# Altium integrated library Xilinx XC5200.IntLib: 211 symbols (part 16 of 19)
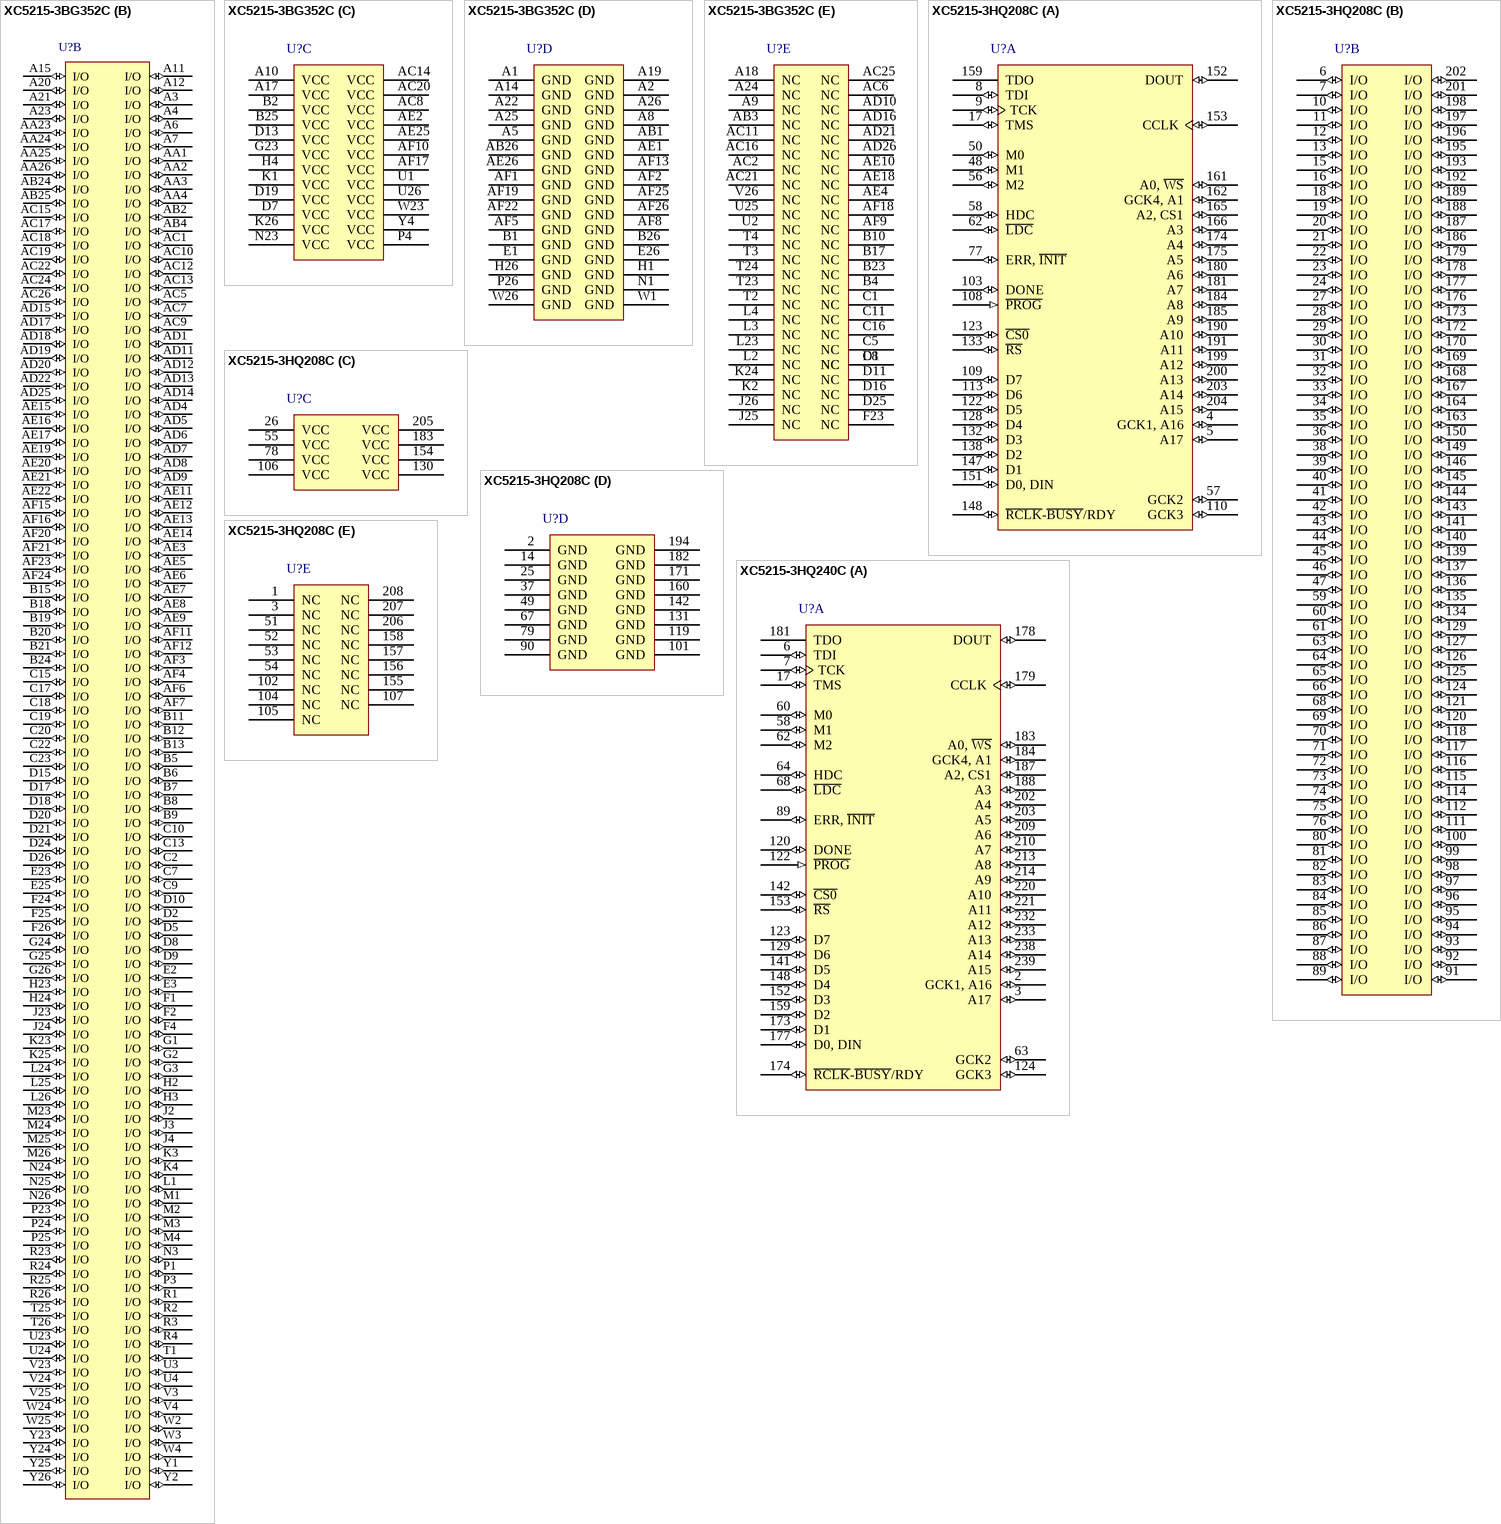
[diagram p78: symbols XC5215-3BG352C to XC5215-3HQ240C]

## XC5215-3BG352C
designator U?
XC5200 Series FPGA, 244 User I/Os, 352-Ball BGA, Commercial Grade; Published: 17-Nov-2009; DatasheetVersion: ver5.2, Nov-1998; PackageVersion: ver1.1, Apr-2001; PackageReference: BG352; Publisher: Altium Limited; PackageDescription: 352-Ball Metal Ball Grid Array (BG352); Code_JEDEC: MO-192-BAR-2; ComponentLink1Description: XC5200 Datasheet; ComponentLink1URL: http://www.xilinx.com/support/documentation/data_sheets/5200.pdf; ComponentLink2Description: Pinout Specification; ComponentLink2URL: http://www.xilinx.com/support/documentation/data_sheets/5200.pdf; ComponentLink3Description: BG352 Package Drawing; ComponentLink3URL: http://www.xilinx.com/support/documentation/package_specs/bg352.pdf; ComponentLink4Description: XC5200 Documents; ComponentLink4URL: http://www.xilinx.com/support/documentation/xc5200.htm; ComponentLink5Description: Xilinx.com Home; ComponentLink5URL: http://www.xilinx.com
footprint BG352 (BGA, 352-Leads, Body 35x35mm, Pitch 1.27mm)
signal-integrity model XC5215_BG352 (XC5200)
part A pins: A13 A6 (io) "I/O (A6)", A16 A10 (io) "I/O (A10)", AB23 M1 (io) "M1 (I/O)", AC3 GCK3 (io) "GCK3 (I/O)", AC4 ~{PROG} (in), AC23 M2 (io) "M2 (I/O)", AD2 D7 (io) "I/O (D7)", AD3 DONE (io), AD23 HDC (io) "I/O (HDC)", AD24 M0 (io) "M0 (I/O)", AE23 ~{LDC} (io) "I/O (LDC)", AE24 GCK2 (io) "GCK2 (I/O)", AF14 ERR, ~{INIT} (io) "I/O (ERR, INIT)", B3 A0, ~{WS} (io) "I/O (A0, WS)", B14 A7 (io) "I/O (A7)", B16 A11 (io) "I/O (A11)", B22 A12 (io) "I/O (A12)", C3 CCLK (io), C4 GCK4, A1 (io) "GCK4 (A1, I/O)", C6 A3 (io) "I/O (A3)", C12 A5 (io) "I/O (A5)", C14 A9 (io) "I/O (A9)", C21 A13 (io) "I/O (A13)", C24 A15 (io) "I/O (A15)", C25 A17 (io) "I/O (A17)", C26 TDI (io) "I/O (TDI)", D3 D0, DIN (io) "I/O (D0, DIN)", D4 TDO (hiz) "I/O (TDO)", D6 A2, CS1 (io) "I/O (A2, CS1)", D12 A4 (io) "I/O (A4)", D14 A8 (io) "I/O (A8)", D22 A14 (io) "I/O (A14)", D23 GCK1, A16 (io) "GCK1 (A16, I/O)", E4 DOUT (io) "I/O (DOUT)", E24 TCK (io) "I/O (TCK)", F3 D1 (io) "I/O (D1)", G4 ~{RCLK}-~{BUSY}/RDY (io) "I/O (RCLK-BUSY/RDY)", H25 TMS (io) "I/O (TMS)", J1 D2 (io) "I/O (D2)", N2 D3 (io) "I/O (D3)", N4 ~{RS} (io) "I/O (RS)", P2 D4 (io) "I/O (D4)", V1 ~{CS0} (io) "I/O (CS0)", V2 D5 (io) "I/O (D5)", Y3 D6 (io) "I/O (D6)"
part B pins: A3 I/O (io), A4 I/O (io), A6 I/O (io), A7 I/O (io), A11 I/O (io), A12 I/O (io), A15 I/O (io), A20 I/O (io), A21 I/O (io), A23 I/O (io), AA1 I/O (io), AA2 I/O (io), AA3 I/O (io), AA4 I/O (io), AA23 I/O (io), AA24 I/O (io), AA25 I/O (io), AA26 I/O (io), AB2 I/O (io), AB4 I/O (io), AB24 I/O (io), AB25 I/O (io), AC1 I/O (io), AC5 I/O (io), AC7 I/O (io), AC9 I/O (io), AC10 I/O (io), AC12 I/O (io), AC13 I/O (io), AC15 I/O (io), AC17 I/O (io), AC18 I/O (io), AC19 I/O (io), AC22 I/O (io), AC24 I/O (io), AC26 I/O (io), AD1 I/O (io), AD4 I/O (io), AD5 I/O (io), AD6 I/O (io), AD7 I/O (io), AD8 I/O (io), AD9 I/O (io), AD11 I/O (io), AD12 I/O (io), AD13 I/O (io), AD14 I/O (io), AD15 I/O (io), AD17 I/O (io), AD18 I/O (io), AD19 I/O (io), AD20 I/O (io), AD22 I/O (io), AD25 I/O (io), AE3 I/O (io), AE5 I/O (io), AE6 I/O (io), AE7 I/O (io), AE8 I/O (io), AE9 I/O (io), AE11 I/O (io), AE12 I/O (io), AE13 I/O (io), AE14 I/O (io), AE15 I/O (io), AE16 I/O (io), AE17 I/O (io), AE19 I/O (io), AE20 I/O (io), AE21 I/O (io), AE22 I/O (io), AF3 I/O (io), AF4 I/O (io), AF6 I/O (io), AF7 I/O (io), AF11 I/O (io), AF12 I/O (io), AF15 I/O (io), AF16 I/O (io), AF20 I/O (io), AF21 I/O (io), AF23 I/O (io), AF24 I/O (io), B5 I/O (io), B6 I/O (io), B7 I/O (io), B8 I/O (io), B9 I/O (io), B11 I/O (io), B12 I/O (io), B13 I/O (io), B15 I/O (io), B18 I/O (io), B19 I/O (io), B20 I/O (io), B21 I/O (io), B24 I/O (io), C2 I/O (io), C7 I/O (io), C9 I/O (io), C10 I/O (io), C13 I/O (io), C15 I/O (io), C17 I/O (io), C18 I/O (io), C19 I/O (io), C20 I/O (io), C22 I/O (io), C23 I/O (io), D2 I/O (io), D5 I/O (io), D8 I/O (io), D9 I/O (io), D10 I/O (io), D15 I/O (io), D17 I/O (io), D18 I/O (io), D20 I/O (io), D21 I/O (io), D24 I/O (io), D26 I/O (io), E2 I/O (io), E3 I/O (io), E23 I/O (io), E25 I/O (io), F1 I/O (io), F2 I/O (io), F4 I/O (io), F24 I/O (io), F25 I/O (io), F26 I/O (io), G1 I/O (io), G2 I/O (io), G3 I/O (io), G24 I/O (io), G25 I/O (io), G26 I/O (io), H2 I/O (io), H3 I/O (io), H23 I/O (io), H24 I/O (io), J2 I/O (io), J3 I/O (io), J4 I/O (io), J23 I/O (io), J24 I/O (io), K3 I/O (io), K4 I/O (io), K23 I/O (io), K25 I/O (io), L1 I/O (io), L24 I/O (io), L25 I/O (io), L26 I/O (io), M1 I/O (io), M2 I/O (io), M3 I/O (io), M4 I/O (io), M23 I/O (io), M24 I/O (io), M25 I/O (io), M26 I/O (io), N3 I/O (io), N24 I/O (io), N25 I/O (io), N26 I/O (io), P1 I/O (io), P3 I/O (io), P23 I/O (io), P24 I/O (io), P25 I/O (io), R1 I/O (io), R2 I/O (io), R3 I/O (io), R4 I/O (io), R23 I/O (io), R24 I/O (io), R25 I/O (io), R26 I/O (io), T1 I/O (io), T25 I/O (io), T26 I/O (io), U3 I/O (io), U4 I/O (io), U23 I/O (io), U24 I/O (io), V3 I/O (io), V4 I/O (io), V23 I/O (io), V24 I/O (io), V25 I/O (io), W2 I/O (io), W3 I/O (io), W4 I/O (io), W24 I/O (io), W25 I/O (io), Y1 I/O (io), Y2 I/O (io), Y23 I/O (io), Y24 I/O (io), Y25 I/O (io), Y26 I/O (io)
part C pins: A10 VCC (power) "Internally bonded to ground plane", A17 VCC (power) "Internally bonded to ground plane", AC8 VCC (power) "Internally bonded to ground plane", AC14 VCC (power) "Internally bonded to ground plane", AC20 VCC (power) "Internally bonded to ground plane", AE2 VCC (power) "Internally bonded to ground plane", AE25 VCC (power) "Internally bonded to ground plane", AF10 VCC (power) "Internally bonded to ground plane", AF17 VCC (power) "Internally bonded to ground plane", B2 VCC (power) "Internally bonded to ground plane", B25 VCC (power) "Internally bonded to ground plane", D7 VCC (power) "Internally bonded to ground plane", D13 VCC (power) "Internally bonded to ground plane", D19 VCC (power) "Internally bonded to ground plane", G23 VCC (power) "Internally bonded to ground plane", H4 VCC (power) "Internally bonded to ground plane", K1 VCC (power) "Internally bonded to ground plane", K26 VCC (power) "Internally bonded to ground plane", N23 VCC (power) "Internally bonded to ground plane", P4 VCC (power) "Internally bonded to ground plane", U1 VCC (power) "Internally bonded to ground plane", U26 VCC (power) "Internally bonded to ground plane", W23 VCC (power) "Internally bonded to ground plane", Y4 VCC (power) "Internally bonded to ground plane"
part D pins: A1 GND (power) "Internally bonded to ground plane", A2 GND (power) "Internally bonded to ground plane", A5 GND (power) "Internally bonded to ground plane", A8 GND (power) "Internally bonded to ground plane", A14 GND (power) "Internally bonded to ground plane", A19 GND (power) "Internally bonded to ground plane", A22 GND (power) "Internally bonded to ground plane", A25 GND (power) "Internally bonded to ground plane", A26 GND (power) "Internally bonded to ground plane", AB1 GND (power) "Internally bonded to ground plane", AB26 GND (power) "Internally bonded to ground plane", AE1 GND (power) "Internally bonded to ground plane", AE26 GND (power) "Internally bonded to ground plane", AF1 GND (power) "Internally bonded to ground plane", AF2 GND (power) "Internally bonded to ground plane", AF5 GND (power) "Internally bonded to ground plane", AF8 GND (power) "Internally bonded to ground plane", AF13 GND (power) "Internally bonded to ground plane", AF19 GND (power) "Internally bonded to ground plane", AF22 GND (power) "Internally bonded to ground plane", AF25 GND (power) "Internally bonded to ground plane", AF26 GND (power) "Internally bonded to ground plane", B1 GND (power) "Internally bonded to ground plane", B26 GND (power) "Internally bonded to ground plane", E1 GND (power) "Internally bonded to ground plane", E26 GND (power) "Internally bonded to ground plane", H1 GND (power) "Internally bonded to ground plane", H26 GND (power) "Internally bonded to ground plane", N1 GND (power) "Internally bonded to ground plane", P26 GND (power) "Internally bonded to ground plane", W1 GND (power) "Internally bonded to ground plane", W26 GND (power) "Internally bonded to ground plane"
part E pins: A9 NC, A18 NC, A24 NC, AB3 NC, AC2 NC, AC6 NC, AC11 NC, AC16 NC, AC21 NC, AC25 NC, AD10 NC, AD16 NC, AD21 NC, AD26 NC, AE4 NC, AE10 NC, AE18 NC, AF9 NC, AF18 NC, B4 NC, B10 NC, B17 NC, B23 NC, C1 NC, C5 NC, C8 NC, C11 NC, C16 NC, D1 NC, D11 NC, D16 NC, D25 NC, F23 NC, J25 NC, J26 NC, K2 NC, K24 NC, L2 NC, L3 NC, L4 NC, L23 NC, T2 NC, T3 NC, T4 NC, T23 NC, T24 NC, U2 NC, U25 NC, V26 NC

## XC5215-3HQ208C
designator U?
XC5200 Series FPGA, 164 User I/Os, 208-Pin HQFP, Commercial Grade; Published: 17-Nov-2009; DatasheetVersion: ver5.2, Nov-1998; PackageVersion: ver1.2, Jun-2004; PackageReference: HQ208; Publisher: Altium Limited; PackageDescription: 208-Pin Heat Sink Quad Flat Pack (HQ208); Code_JEDEC: MS-029-FA-1; ComponentLink1Description: XC5200 Datasheet; ComponentLink1URL: http://www.xilinx.com/support/documentation/data_sheets/5200.pdf; ComponentLink2Description: Pinout Specification; ComponentLink2URL: http://www.xilinx.com/support/documentation/data_sheets/5200.pdf; ComponentLink3Description: Discontinuation Notice; ComponentLink3URL: http://www.xilinx.com/support/documentation/customer_notices/xcn09001.pdf; ComponentLink4Description: HQ208 Package Drawing; ComponentLink4URL: http://www.xilinx.com/support/documentation/package_specs/hq208.pdf; ComponentLink5Description: XC5200 Documents; ComponentLink5URL: http://www.xilinx.com/support/documentation/xc5200.htm; ComponentLink6Description: Xilinx.com Home; ComponentLink6URL: http://www.xilinx.com
footprint HQ208_N (Shrink QFP, 208-Leads, Body 28x28mm, Pitch 0.5mm, IPC Medium Density)
footprint HQ208_L (Shrink QFP, 208-Leads, Body 28x28mm, Pitch 0.5mm, IPC High Density)
footprint HQ208_M (Shrink QFP, 208-Leads, Body 28x28mm, Pitch 0.5mm, IPC Low Density)
signal-integrity model XC5215_HQ208 (XC5200)
part A pins: 4 GCK1, A16 (io) "GCK1 (A16, I/O)", 5 A17 (io) "I/O (A17)", 8 TDI (io) "I/O (TDI)", 9 TCK (io) "I/O (TCK)", 17 TMS (io) "I/O (TMS)", 48 M1 (io) "M1 (I/O)", 50 M0 (io) "M0 (I/O)", 56 M2 (io) "M2 (I/O)", 57 GCK2 (io) "GCK2 (I/O)", 58 HDC (io) "I/O (HDC)", 62 ~{LDC} (io) "I/O (LDC)", 77 ERR, ~{INIT} (io) "I/O (ERR, INIT)", 103 DONE (io), 108 ~{PROG} (in), 109 D7 (io) "I/O (D7)", 110 GCK3 (io) "GCK3 (I/O)", 113 D6 (io) "I/O (D6)", 122 D5 (io) "I/O (D5)", 123 ~{CS0} (io) "I/O (CS0)", 128 D4 (io) "I/O (D4)", 132 D3 (io) "I/O (D3)", 133 ~{RS} (io) "I/O (RS)", 138 D2 (io) "I/O (D2)", 147 D1 (io) "I/O (D1)", 148 ~{RCLK}-~{BUSY}/RDY (io) "I/O (RCLK-BUSY/RDY)", 151 D0, DIN (io) "I/O (D0, DIN)", 152 DOUT (io) "I/O (DOUT)", 153 CCLK (io), 159 TDO (hiz) "I/O (TDO)", 161 A0, ~{WS} (io) "I/O (A0, WS)", 162 GCK4, A1 (io) "GCK4 (A1, I/O)", 165 A2, CS1 (io) "I/O (A2, CS1)", 166 A3 (io) "I/O (A3)", 174 A4 (io) "I/O (A4)", 175 A5 (io) "I/O (A5)", 180 A6 (io) "I/O (A6)", 181 A7 (io) "I/O (A7)", 184 A8 (io) "I/O (A8)", 185 A9 (io) "I/O (A9)", 190 A10 (io) "I/O (A10)", 191 A11 (io) "I/O (A11)", 199 A12 (io) "I/O (A12)", 200 A13 (io) "I/O (A13)", 203 A14 (io) "I/O (A14)", 204 A15 (io) "I/O (A15)"
part B pins: 6 I/O (io), 7 I/O (io), 10 I/O (io), 11 I/O (io), 12 I/O (io), 13 I/O (io), 15 I/O (io), 16 I/O (io), 18 I/O (io), 19 I/O (io), 20 I/O (io), 21 I/O (io), 22 I/O (io), 23 I/O (io), 24 I/O (io), 27 I/O (io), 28 I/O (io), 29 I/O (io), 30 I/O (io), 31 I/O (io), 32 I/O (io), 33 I/O (io), 34 I/O (io), 35 I/O (io), 36 I/O (io), 38 I/O (io), 39 I/O (io), 40 I/O (io), 41 I/O (io), 42 I/O (io), 43 I/O (io), 44 I/O (io), 45 I/O (io), 46 I/O (io), 47 I/O (io), 59 I/O (io), 60 I/O (io), 61 I/O (io), 63 I/O (io), 64 I/O (io), 65 I/O (io), 66 I/O (io), 68 I/O (io), 69 I/O (io), 70 I/O (io), 71 I/O (io), 72 I/O (io), 73 I/O (io), 74 I/O (io), 75 I/O (io), 76 I/O (io), 80 I/O (io), 81 I/O (io), 82 I/O (io), 83 I/O (io), 84 I/O (io), 85 I/O (io), 86 I/O (io), 87 I/O (io), 88 I/O (io), 89 I/O (io), 91 I/O (io), 92 I/O (io), 93 I/O (io), 94 I/O (io), 95 I/O (io), 96 I/O (io), 97 I/O (io), 98 I/O (io), 99 I/O (io), 100 I/O (io), 111 I/O (io), 112 I/O (io), 114 I/O (io), 115 I/O (io), 116 I/O (io), 117 I/O (io), 118 I/O (io), 120 I/O (io), 121 I/O (io), 124 I/O (io), 125 I/O (io), 126 I/O (io), 127 I/O (io), 129 I/O (io), 134 I/O (io), 135 I/O (io), 136 I/O (io), 137 I/O (io), 139 I/O (io), 140 I/O (io), 141 I/O (io), 143 I/O (io), 144 I/O (io), 145 I/O (io), 146 I/O (io), 149 I/O (io), 150 I/O (io), 163 I/O (io), 164 I/O (io), 167 I/O (io), 168 I/O (io), 169 I/O (io), 170 I/O (io), 172 I/O (io), 173 I/O (io), 176 I/O (io), 177 I/O (io), 178 I/O (io), 179 I/O (io), 186 I/O (io), 187 I/O (io), 188 I/O (io), 189 I/O (io), 192 I/O (io), 193 I/O (io), 195 I/O (io), 196 I/O (io), 197 I/O (io), 198 I/O (io), 201 I/O (io), 202 I/O (io)
part C pins: 26 VCC (power) "Internally bonded to ground plane", 55 VCC (power) "Internally bonded to ground plane", 78 VCC (power) "Internally bonded to ground plane", 106 VCC (power) "Internally bonded to ground plane", 130 VCC (power) "Internally bonded to ground plane", 154 VCC (power) "Internally bonded to ground plane", 183 VCC (power) "Internally bonded to ground plane", 205 VCC (power) "Internally bonded to ground plane"
part D pins: 2 GND (power) "Internally bonded to ground plane", 14 GND (power) "Internally bonded to ground plane", 25 GND (power) "Internally bonded to ground plane", 37 GND (power) "Internally bonded to ground plane", 49 GND (power) "Internally bonded to ground plane", 67 GND (power) "Internally bonded to ground plane", 79 GND (power) "Internally bonded to ground plane", 90 GND (power) "Internally bonded to ground plane", 101 GND (power) "Internally bonded to ground plane", 119 GND (power) "Internally bonded to ground plane", 131 GND (power) "Internally bonded to ground plane", 142 GND (power) "Internally bonded to ground plane", 160 GND (power) "Internally bonded to ground plane", 171 GND (power) "Internally bonded to ground plane", 182 GND (power) "Internally bonded to ground plane", 194 GND (power) "Internally bonded to ground plane"
part E pins: 1 NC, 3 NC, 51 NC, 52 NC, 53 NC, 54 NC, 102 NC, 104 NC, 105 NC, 107 NC, 155 NC, 156 NC, 157 NC, 158 NC, 206 NC, 207 NC, 208 NC

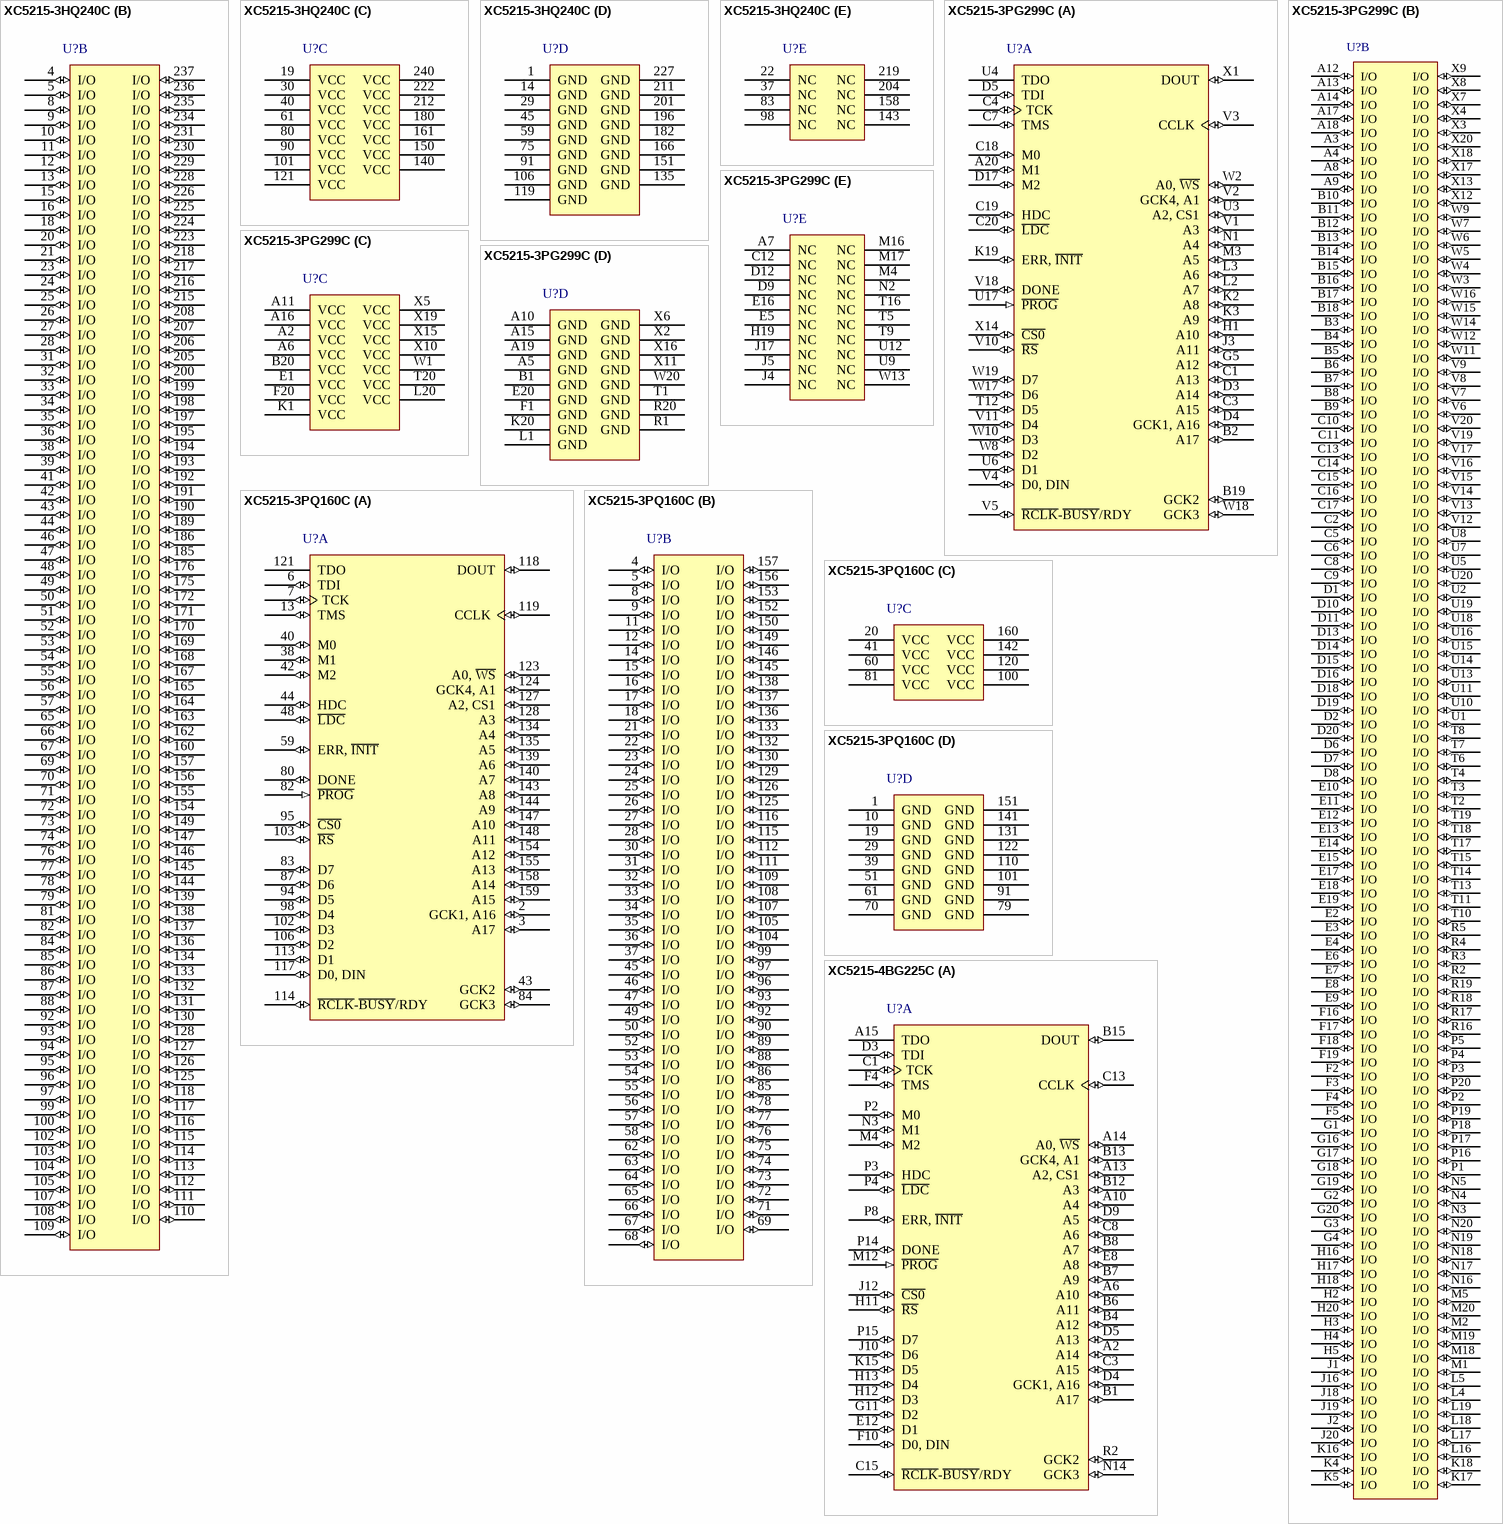
[diagram p51: symbols XC5215-3HQ240C to XC5215-4BG225C]

## XC5215-3HQ240C
designator U?
XC5200 Series FPGA, 197 User I/Os, 240-Pin HQFP, Commercial Grade; Published: 17-Nov-2009; DatasheetVersion: ver5.2, Nov-1998; PackageVersion: ver1.2, Jun-2004; PackageReference: HQ240; Publisher: Altium Limited; PackageDescription: 240-Pin Heat Sink Quad Flat Pack (HQ240); Code_JEDEC: MO-143-GA; ComponentLink1Description: XC5200 Datasheet; ComponentLink1URL: http://www.xilinx.com/support/documentation/data_sheets/5200.pdf; ComponentLink2Description: Pinout Specification; ComponentLink2URL: http://www.xilinx.com/support/documentation/data_sheets/5200.pdf; ComponentLink3Description: HQ240 Package Drawing; ComponentLink3URL: http://www.xilinx.com/support/documentation/package_specs/hq240.pdf; ComponentLink4Description: XC5200 Documents; ComponentLink4URL: http://www.xilinx.com/support/documentation/xc5200.htm; ComponentLink5Description: Xilinx.com Home; ComponentLink5URL: http://www.xilinx.com
footprint HQ240_N (Shrink QFP, 240-Leads, Body 32x32mm, Pitch 0.5mm, IPC Medium Density)
footprint HQ240_L (Shrink QFP, 240-Leads, Body 32x32mm, Pitch 0.5mm, IPC High Density)
footprint HQ240_M (Shrink QFP, 240-Leads, Body 32x32mm, Pitch 0.5mm, IPC Low Density)
signal-integrity model XC5215_HQ240 (XC5200)
part A pins: 2 GCK1, A16 (io) "GCK1 (A16, I/O)", 3 A17 (io) "I/O (A17)", 6 TDI (io) "I/O (TDI)", 7 TCK (io) "I/O (TCK)", 17 TMS (io) "I/O (TMS)", 58 M1 (io) "M1 (I/O)", 60 M0 (io) "M0 (I/O)", 62 M2 (io) "M2 (I/O)", 63 GCK2 (io) "GCK2 (I/O)", 64 HDC (io) "I/O (HDC)", 68 ~{LDC} (io) "I/O (LDC)", 89 ERR, ~{INIT} (io) "I/O (ERR, INIT)", 120 DONE (io), 122 ~{PROG} (in), 123 D7 (io) "I/O (D7)", 124 GCK3 (io) "GCK3 (I/O)", 129 D6 (io) "I/O (D6)", 141 D5 (io) "I/O (D5)", 142 ~{CS0} (io) "I/O (CS0)", 148 D4 (io) "I/O (D4)", 152 D3 (io) "I/O (D3)", 153 ~{RS} (io) "I/O (RS)", 159 D2 (io) "I/O (D2)", 173 D1 (io) "I/O (D1)", 174 ~{RCLK}-~{BUSY}/RDY (io) "I/O (RCLK-BUSY/RDY)", 177 D0, DIN (io) "I/O (D0, DIN)", 178 DOUT (io) "I/O (DOUT)", 179 CCLK (io), 181 TDO (hiz) "I/O (TDO)", 183 A0, ~{WS} (io) "I/O (A0, WS)", 184 GCK4, A1 (io) "GCK4 (A1, I/O)", 187 A2, CS1 (io) "I/O (A2, CS1)", 188 A3 (io) "I/O (A3)", 202 A4 (io) "I/O (A4)", 203 A5 (io) "I/O (A5)", 209 A6 (io) "I/O (A6)", 210 A7 (io) "I/O (A7)", 213 A8 (io) "I/O (A8)", 214 A9 (io) "I/O (A9)", 220 A10 (io) "I/O (A10)", 221 A11 (io) "I/O (A11)", 232 A12 (io) "I/O (A12)", 233 A13 (io) "I/O (A13)", 238 A14 (io) "I/O (A14)", 239 A15 (io) "I/O (A15)"
part B pins: 4 I/O (io), 5 I/O (io), 8 I/O (io), 9 I/O (io), 10 I/O (io), 11 I/O (io), 12 I/O (io), 13 I/O (io), 15 I/O (io), 16 I/O (io), 18 I/O (io), 20 I/O (io), 21 I/O (io), 23 I/O (io), 24 I/O (io), 25 I/O (io), 26 I/O (io), 27 I/O (io), 28 I/O (io), 31 I/O (io), 32 I/O (io), 33 I/O (io), 34 I/O (io), 35 I/O (io), 36 I/O (io), 38 I/O (io), 39 I/O (io), 41 I/O (io), 42 I/O (io), 43 I/O (io), 44 I/O (io), 46 I/O (io), 47 I/O (io), 48 I/O (io), 49 I/O (io), 50 I/O (io), 51 I/O (io), 52 I/O (io), 53 I/O (io), 54 I/O (io), 55 I/O (io), 56 I/O (io), 57 I/O (io), 65 I/O (io), 66 I/O (io), 67 I/O (io), 69 I/O (io), 70 I/O (io), 71 I/O (io), 72 I/O (io), 73 I/O (io), 74 I/O (io), 76 I/O (io), 77 I/O (io), 78 I/O (io), 79 I/O (io), 81 I/O (io), 82 I/O (io), 84 I/O (io), 85 I/O (io), 86 I/O (io), 87 I/O (io), 88 I/O (io), 92 I/O (io), 93 I/O (io), 94 I/O (io), 95 I/O (io), 96 I/O (io), 97 I/O (io), 99 I/O (io), 100 I/O (io), 102 I/O (io), 103 I/O (io), 104 I/O (io), 105 I/O (io), 107 I/O (io), 108 I/O (io), 109 I/O (io), 110 I/O (io), 111 I/O (io), 112 I/O (io), 113 I/O (io), 114 I/O (io), 115 I/O (io), 116 I/O (io), 117 I/O (io), 118 I/O (io), 125 I/O (io), 126 I/O (io), 127 I/O (io), 128 I/O (io), 130 I/O (io), 131 I/O (io), 132 I/O (io), 133 I/O (io), 134 I/O (io), 136 I/O (io), 137 I/O (io), 138 I/O (io), 139 I/O (io), 144 I/O (io), 145 I/O (io), 146 I/O (io), 147 I/O (io), 149 I/O (io), 154 I/O (io), 155 I/O (io), 156 I/O (io), 157 I/O (io), 160 I/O (io), 162 I/O (io), 163 I/O (io), 164 I/O (io), 165 I/O (io), 167 I/O (io), 168 I/O (io), 169 I/O (io), 170 I/O (io), 171 I/O (io), 172 I/O (io), 175 I/O (io), 176 I/O (io), 185 I/O (io), 186 I/O (io), 189 I/O (io), 190 I/O (io), 191 I/O (io), 192 I/O (io), 193 I/O (io), 194 I/O (io), 195 I/O (io), 197 I/O (io), 198 I/O (io), 199 I/O (io), 200 I/O (io), 205 I/O (io), 206 I/O (io), 207 I/O (io), 208 I/O (io), 215 I/O (io), 216 I/O (io), 217 I/O (io), 218 I/O (io), 223 I/O (io), 224 I/O (io), 225 I/O (io), 226 I/O (io), 228 I/O (io), 229 I/O (io), 230 I/O (io), 231 I/O (io), 234 I/O (io), 235 I/O (io), 236 I/O (io), 237 I/O (io)
part C pins: 19 VCC (power) "Internally bonded to ground plane", 30 VCC (power) "Internally bonded to ground plane", 40 VCC (power) "Internally bonded to ground plane", 61 VCC (power) "Internally bonded to ground plane", 80 VCC (power) "Internally bonded to ground plane", 90 VCC (power) "Internally bonded to ground plane", 101 VCC (power), 121 VCC (power), 140 VCC (power), 150 VCC (power), 161 VCC (power), 180 VCC (power), 212 VCC (power) "Internally bonded to ground plane", 222 VCC (power) "Internally bonded to ground plane", 240 VCC (power) "Internally bonded to ground plane"
part D pins: 1 GND (power) "Internally bonded to ground plane", 14 GND (power) "Internally bonded to ground plane", 29 GND (power) "Internally bonded to ground plane", 45 GND (power) "Internally bonded to ground plane", 59 GND (power) "Internally bonded to ground plane", 75 GND (power) "Internally bonded to ground plane", 91 GND (power) "Internally bonded to ground plane", 106 GND (power) "Internally bonded to ground plane", 119 GND (power) "Internally bonded to ground plane", 135 GND (power) "Internally bonded to ground plane", 151 GND (power) "Internally bonded to ground plane", 166 GND (power) "Internally bonded to ground plane", 182 GND (power) "Internally bonded to ground plane", 196 GND (power) "Internally bonded to ground plane", 201 GND (power) "Internally bonded to ground plane", 211 GND (power) "Internally bonded to ground plane", 227 GND (power) "Internally bonded to ground plane"
part E pins: 22 NC, 37 NC, 83 NC, 98 NC, 143 NC, 158 NC, 204 NC, 219 NC

## XC5215-3PG299C
designator U?
XC5200 Series FPGA, 244 User I/Os, 299-Pin PGA, Commercial Grade; Published: 17-Nov-2009; DatasheetVersion: ver5.2, Nov-1998; PackageVersion: ver1.0, Jun-2000; PackageReference: PG299; Publisher: Altium Limited; PackageDescription: 299-Pin Ceramic Pin Grid Array (PG299); ComponentLink1Description: XC5200 Datasheet; ComponentLink1URL: http://www.xilinx.com/support/documentation/data_sheets/5200.pdf; ComponentLink2Description: Pinout Specification; ComponentLink2URL: http://www.xilinx.com/support/documentation/data_sheets/5200.pdf; ComponentLink3Description: PG299 Package Drawing; ComponentLink3URL: http://www.xilinx.com/support/documentation/package_specs/pg299.pdf; ComponentLink4Description: XC5200 Documents; ComponentLink4URL: http://www.xilinx.com/support/documentation/xc5200.htm; ComponentLink5Description: Xilinx.com Home; ComponentLink5URL: http://www.xilinx.com
footprint PG299 (PGA, 299-Leads, Body 52.3x52.3mm, Pitch 2.54mm)
signal-integrity model XC5215_PG299 (XC5200)
part A pins: A20 M1 (io) "M1 (I/O)", B2 A17 (io) "I/O (A17)", B19 GCK2 (io) "GCK2 (I/O)", C1 A13 (io) "I/O (A13)", C3 A15 (io) "I/O (A15)", C4 TCK (io) "I/O (TCK)", C7 TMS (io) "I/O (TMS)", C18 M0 (io) "M0 (I/O)", C19 HDC (io) "I/O (HDC)", C20 ~{LDC} (io) "I/O (LDC)", D3 A14 (io) "I/O (A14)", D4 GCK1, A16 (io) "GCK1 (A16, I/O)", D5 TDI (io) "I/O (TDI)", D17 M2 (io) "M2 (I/O)", G5 A12 (io) "I/O (A12)", H1 A10 (io) "I/O (A10)", J3 A11 (io) "I/O (A11)", K2 A8 (io) "I/O (A8)", K3 A9 (io) "I/O (A9)", K19 ERR, ~{INIT} (io) "I/O (ERR, INIT)", L2 A7 (io) "I/O (A7)", L3 A6 (io) "I/O (A6)", M3 A5 (io) "I/O (A5)", N1 A4 (io) "I/O (A4)", T12 D5 (io) "I/O (D5)", U3 A2, CS1 (io) "I/O (A2, CS1)", U4 TDO (hiz) "I/O (TDO)", U6 D1 (io) "I/O (D1)", U17 ~{PROG} (in), V1 A3 (io) "I/O (A3)", V2 GCK4, A1 (io) "GCK4 (A1, I/O)", V3 CCLK (io), V4 D0, DIN (io) "I/O (D0, DIN)", V5 ~{RCLK}-~{BUSY}/RDY (io) "I/O (RCLK-BUSY/RDY)", V10 ~{RS} (io) "I/O (RS)", V11 D4 (io) "I/O (D4)", V18 DONE (io), W2 A0, ~{WS} (io) "I/O (A0, WS)", W8 D2 (io) "I/O (D2)", W10 D3 (io) "I/O (D3)", W17 D6 (io) "I/O (D6)", W18 GCK3 (io) "GCK3 (I/O)", W19 D7 (io) "I/O (D7)", X1 DOUT (io) "I/O (DOUT)", X14 ~{CS0} (io) "I/O (CS0)"
part B pins: A3 I/O (io), A4 I/O (io), A8 I/O (io), A9 I/O (io), A12 I/O (io), A13 I/O (io), A14 I/O (io), A17 I/O (io), A18 I/O (io), B3 I/O (io), B4 I/O (io), B5 I/O (io), B6 I/O (io), B7 I/O (io), B8 I/O (io), B9 I/O (io), B10 I/O (io), B11 I/O (io), B12 I/O (io), B13 I/O (io), B14 I/O (io), B15 I/O (io), B16 I/O (io), B17 I/O (io), B18 I/O (io), C2 I/O (io), C5 I/O (io), C6 I/O (io), C8 I/O (io), C9 I/O (io), C10 I/O (io), C11 I/O (io), C13 I/O (io), C14 I/O (io), C15 I/O (io), C16 I/O (io), C17 I/O (io), D1 I/O (io), D2 I/O (io), D6 I/O (io), D7 I/O (io), D8 I/O (io), D10 I/O (io), D11 I/O (io), D13 I/O (io), D14 I/O (io), D15 I/O (io), D16 I/O (io), D18 I/O (io), D19 I/O (io), D20 I/O (io), E2 I/O (io), E3 I/O (io), E4 I/O (io), E6 I/O (io), E7 I/O (io), E8 I/O (io), E9 I/O (io), E10 I/O (io), E11 I/O (io), E12 I/O (io), E13 I/O (io), E14 I/O (io), E15 I/O (io), E17 I/O (io), E18 I/O (io), E19 I/O (io), F2 I/O (io), F3 I/O (io), F4 I/O (io), F5 I/O (io), F16 I/O (io), F17 I/O (io), F18 I/O (io), F19 I/O (io), G1 I/O (io), G2 I/O (io), G3 I/O (io), G4 I/O (io), G16 I/O (io), G17 I/O (io), G18 I/O (io), G19 I/O (io), G20 I/O (io), H2 I/O (io), H3 I/O (io), H4 I/O (io), H5 I/O (io), H16 I/O (io), H17 I/O (io), H18 I/O (io), H20 I/O (io), J1 I/O (io), J2 I/O (io), J16 I/O (io), J18 I/O (io), J19 I/O (io), J20 I/O (io), K4 I/O (io), K5 I/O (io), K16 I/O (io), K17 I/O (io), K18 I/O (io), L4 I/O (io), L5 I/O (io), L16 I/O (io), L17 I/O (io), L18 I/O (io), L19 I/O (io), M1 I/O (io), M2 I/O (io), M5 I/O (io), M18 I/O (io), M19 I/O (io), M20 I/O (io), N3 I/O (io), N4 I/O (io), N5 I/O (io), N16 I/O (io), N17 I/O (io), N18 I/O (io), N19 I/O (io), N20 I/O (io), P1 I/O (io), P2 I/O (io), P3 I/O (io), P4 I/O (io), P5 I/O (io), P16 I/O (io), P17 I/O (io), P18 I/O (io), P19 I/O (io), P20 I/O (io), R2 I/O (io), R3 I/O (io), R4 I/O (io), R5 I/O (io), R16 I/O (io), R17 I/O (io), R18 I/O (io), R19 I/O (io), T2 I/O (io), T3 I/O (io), T4 I/O (io), T6 I/O (io), T7 I/O (io), T8 I/O (io), T10 I/O (io), T11 I/O (io), T13 I/O (io), T14 I/O (io), T15 I/O (io), T17 I/O (io), T18 I/O (io), T19 I/O (io), U1 I/O (io), U2 I/O (io), U5 I/O (io), U7 I/O (io), U8 I/O (io), U10 I/O (io), U11 I/O (io), U13 I/O (io), U14 I/O (io), U15 I/O (io), U16 I/O (io), U18 I/O (io), U19 I/O (io), U20 I/O (io), V6 I/O (io), V7 I/O (io), V8 I/O (io), V9 I/O (io), V12 I/O (io), V13 I/O (io), V14 I/O (io), V15 I/O (io), V16 I/O (io), V17 I/O (io), V19 I/O (io), V20 I/O (io), W3 I/O (io), W4 I/O (io), W5 I/O (io), W6 I/O (io), W7 I/O (io), W9 I/O (io), W11 I/O (io), W12 I/O (io), W14 I/O (io), W15 I/O (io), W16 I/O (io), X3 I/O (io), X4 I/O (io), X7 I/O (io), X8 I/O (io), X9 I/O (io), X12 I/O (io), X13 I/O (io), X17 I/O (io), X18 I/O (io), X20 I/O (io)
part C pins: A2 VCC (power) "Internally bonded to ground plane", A6 VCC (power) "Internally bonded to ground plane", A11 VCC (power) "Internally bonded to ground plane", A16 VCC (power) "Internally bonded to ground plane", B20 VCC (power) "Internally bonded to ground plane", E1 VCC (power) "Internally bonded to ground plane", F20 VCC (power) "Internally bonded to ground plane", K1 VCC (power) "Internally bonded to ground plane", L20 VCC (power) "Internally bonded to ground plane", T20 VCC (power), W1 VCC (power), X5 VCC (power), X10 VCC (power), X15 VCC (power), X19 VCC (power)
part D pins: A5 GND (power) "Internally bonded to ground plane", A10 GND (power) "Internally bonded to ground plane", A15 GND (power) "Internally bonded to ground plane", A19 GND (power) "Internally bonded to ground plane", B1 GND (power) "Internally bonded to ground plane", E20 GND (power) "Internally bonded to ground plane", F1 GND (power) "Internally bonded to ground plane", K20 GND (power) "Internally bonded to ground plane", L1 GND (power) "Internally bonded to ground plane", R1 GND (power) "Internally bonded to ground plane", R20 GND (power) "Internally bonded to ground plane", T1 GND (power) "Internally bonded to ground plane", W20 GND (power) "Internally bonded to ground plane", X2 GND (power) "Internally bonded to ground plane", X6 GND (power) "Internally bonded to ground plane", X11 GND (power) "Internally bonded to ground plane", X16 GND (power) "Internally bonded to ground plane"
part E pins: A7 NC, C12 NC, D9 NC, D12 NC, E5 NC, E16 NC, H19 NC, J4 NC, J5 NC, J17 NC, M4 NC, M16 NC, M17 NC, N2 NC, T5 NC, T9 NC, T16 NC, U9 NC, U12 NC, W13 NC

## XC5215-3PQ160C
designator U?
XC5200 Series FPGA, 133 User I/Os, 160-Pin PQFP, Commercial Grade; Published: 17-Nov-2009; DatasheetVersion: ver5.2, Nov-1998; PackageVersion: ver1.2, Jun-2004; PackageReference: PQ160; Publisher: Altium Limited; PackageDescription: 160-Pin Plastic Quad Flat Pack (PQ160); Code_JEDEC: MS-022-DD1; Code_IPC: QFP65P3120X3120-160; ComponentLink1Description: XC5200 Datasheet; ComponentLink1URL: http://www.xilinx.com/support/documentation/data_sheets/5200.pdf; ComponentLink2Description: Pinout Specification; ComponentLink2URL: http://www.xilinx.com/support/documentation/data_sheets/5200.pdf; ComponentLink3Description: Discontinuation Notice; ComponentLink3URL: http://www.xilinx.com/support/documentation/customer_notices/xcn09001.pdf; ComponentLink4Description: PQ160 Package Drawing; ComponentLink4URL: http://www.xilinx.com/support/documentation/package_specs/pq160.pdf; ComponentLink5Description: XC5200 Documents; ComponentLink5URL: http://www.xilinx.com/support/documentation/xc5200.htm; ComponentLink6Description: Xilinx.com Home; ComponentLink6URL: http://www.xilinx.com
footprint PQ160_N (QFP, 160-Leads, Body 28x28mm, Pitch 0.65mm, IPC Medium Density)
footprint PQ160_L (QFP, 160-Leads, Body 28x28mm, Pitch 0.65mm, IPC High Density)
footprint PQ160_M (QFP, 160-Leads, Body 28x28mm, Pitch 0.65mm, IPC Low Density)
signal-integrity model XC5215_PQ160 (XC5200)
part A pins: 2 GCK1, A16 (io) "GCK1 (A16, I/O)", 3 A17 (io) "I/O (A17)", 6 TDI (io) "I/O (TDI)", 7 TCK (io) "I/O (TCK)", 13 TMS (io) "I/O (TMS)", 38 M1 (io) "M1 (I/O)", 40 M0 (io) "M0 (I/O)", 42 M2 (io) "M2 (I/O)", 43 GCK2 (io) "GCK2 (I/O)", 44 HDC (io) "I/O (HDC)", 48 ~{LDC} (io) "I/O (LDC)", 59 ERR, ~{INIT} (io) "I/O (ERR, INIT)", 80 DONE (io), 82 ~{PROG} (in), 83 D7 (io) "I/O (D7)", 84 GCK3 (io) "GCK3 (I/O)", 87 D6 (io) "I/O (D6)", 94 D5 (io) "I/O (D5)", 95 ~{CS0} (io) "I/O (CS0)", 98 D4 (io) "I/O (D4)", 102 D3 (io) "I/O (D3)", 103 ~{RS} (io) "I/O (RS)", 106 D2 (io) "I/O (D2)", 113 D1 (io) "I/O (D1)", 114 ~{RCLK}-~{BUSY}/RDY (io) "I/O (RCLK-BUSY/RDY)", 117 D0, DIN (io) "I/O (D0, DIN)", 118 DOUT (io) "I/O (DOUT)", 119 CCLK (io), 121 TDO (hiz) "I/O (TDO)", 123 A0, ~{WS} (io) "I/O (A0, WS)", 124 GCK4, A1 (io) "GCK4 (A1, I/O)", 127 A2, CS1 (io) "I/O (A2, CS1)", 128 A3 (io) "I/O (A3)", 134 A4 (io) "I/O (A4)", 135 A5 (io) "I/O (A5)", 139 A6 (io) "I/O (A6)", 140 A7 (io) "I/O (A7)", 143 A8 (io) "I/O (A8)", 144 A9 (io) "I/O (A9)", 147 A10 (io) "I/O (A10)", 148 A11 (io) "I/O (A11)", 154 A12 (io) "I/O (A12)", 155 A13 (io) "I/O (A13)", 158 A14 (io) "I/O (A14)", 159 A15 (io) "I/O (A15)"
part B pins: 4 I/O (io), 5 I/O (io), 8 I/O (io), 9 I/O (io), 11 I/O (io), 12 I/O (io), 14 I/O (io), 15 I/O (io), 16 I/O (io), 17 I/O (io), 18 I/O (io), 21 I/O (io), 22 I/O (io), 23 I/O (io), 24 I/O (io), 25 I/O (io), 26 I/O (io), 27 I/O (io), 28 I/O (io), 30 I/O (io), 31 I/O (io), 32 I/O (io), 33 I/O (io), 34 I/O (io), 35 I/O (io), 36 I/O (io), 37 I/O (io), 45 I/O (io), 46 I/O (io), 47 I/O (io), 49 I/O (io), 50 I/O (io), 52 I/O (io), 53 I/O (io), 54 I/O (io), 55 I/O (io), 56 I/O (io), 57 I/O (io), 58 I/O (io), 62 I/O (io), 63 I/O (io), 64 I/O (io), 65 I/O (io), 66 I/O (io), 67 I/O (io), 68 I/O (io), 69 I/O (io), 71 I/O (io), 72 I/O (io), 73 I/O (io), 74 I/O (io), 75 I/O (io), 76 I/O (io), 77 I/O (io), 78 I/O (io), 85 I/O (io), 86 I/O (io), 88 I/O (io), 89 I/O (io), 90 I/O (io), 92 I/O (io), 93 I/O (io), 96 I/O (io), 97 I/O (io), 99 I/O (io), 104 I/O (io), 105 I/O (io), 107 I/O (io), 108 I/O (io), 109 I/O (io), 111 I/O (io), 112 I/O (io), 115 I/O (io), 116 I/O (io), 125 I/O (io), 126 I/O (io), 129 I/O (io), 130 I/O (io), 132 I/O (io), 133 I/O (io), 136 I/O (io), 137 I/O (io), 138 I/O (io), 145 I/O (io), 146 I/O (io), 149 I/O (io), 150 I/O (io), 152 I/O (io), 153 I/O (io), 156 I/O (io), 157 I/O (io)
part C pins: 20 VCC (power), 41 VCC (power), 60 VCC (power), 81 VCC (power), 100 VCC (power), 120 VCC (power), 142 VCC (power), 160 VCC (power)
part D pins: 1 GND (power), 10 GND (power), 19 GND (power), 29 GND (power), 39 GND (power), 51 GND (power), 61 GND (power), 70 GND (power), 79 GND (power), 91 GND (power), 101 GND (power), 110 GND (power), 122 GND (power), 131 GND (power), 141 GND (power), 151 GND (power)

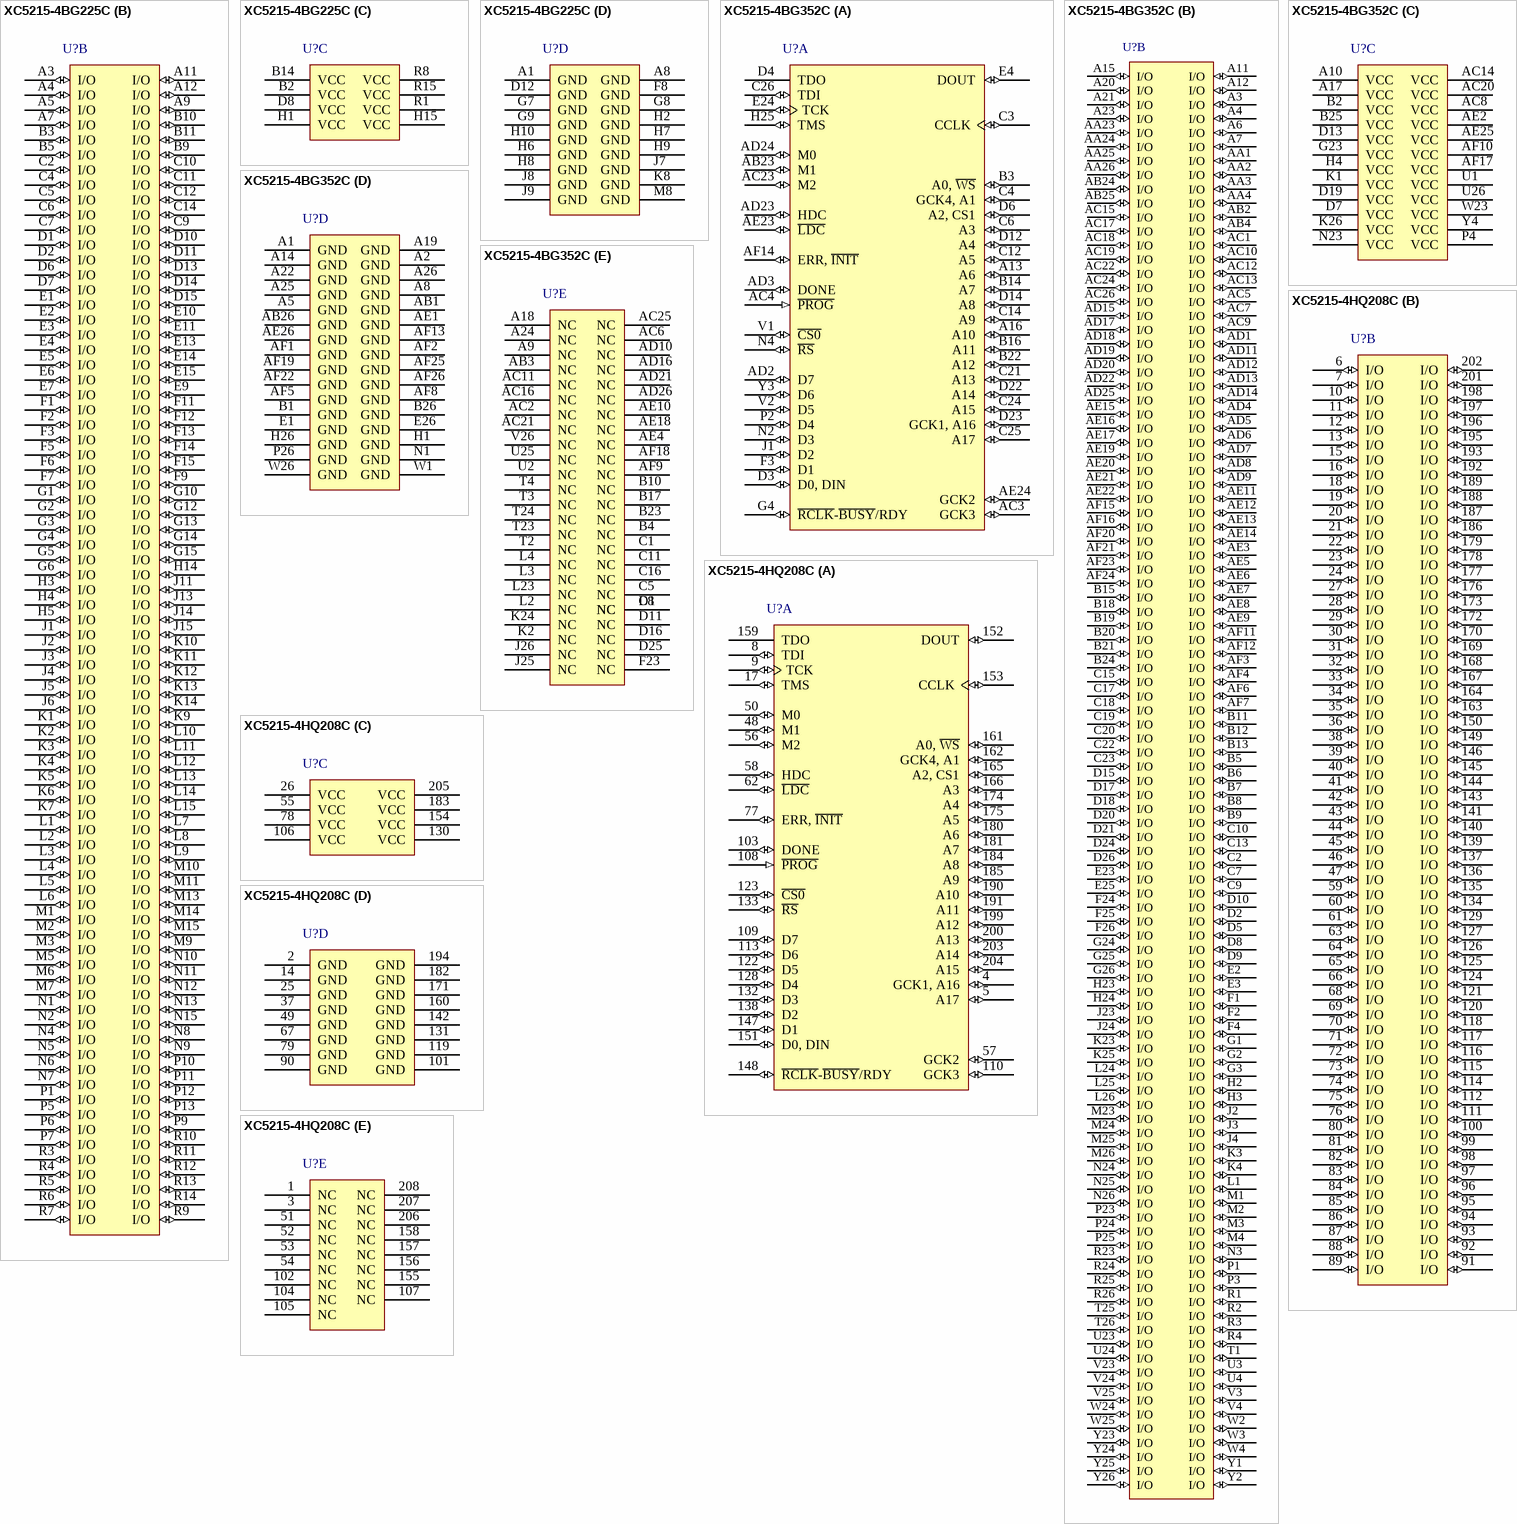
[diagram p52: symbols XC5215-4BG225C to XC5215-4HQ208C]

## XC5215-4BG225C
designator U?
XC5200 Series FPGA, 196 User I/Os, 225-Ball BGA, Commercial Grade; Published: 17-Nov-2009; DatasheetVersion: ver5.2, Nov-1998; PackageVersion: ver1.1, Apr-2001; PackageReference: BG225; Publisher: Altium Limited; PackageDescription: 225-Ball Plastic Ball Grid Array (BG225); ComponentLink1Description: XC5200 Datasheet; ComponentLink1URL: http://www.xilinx.com/support/documentation/data_sheets/5200.pdf; ComponentLink2Description: Pinout Specification; ComponentLink2URL: http://www.xilinx.com/support/documentation/data_sheets/5200.pdf; ComponentLink3Description: Discontinuation Notice; ComponentLink3URL: http://www.xilinx.com/support/documentation/customer_notices/xcn09001.pdf; ComponentLink4Description: BG225 Package Drawing; ComponentLink4URL: http://www.xilinx.com/support/documentation/package_specs/bg225.pdf; ComponentLink5Description: XC5200 Documents; ComponentLink5URL: http://www.xilinx.com/support/documentation/xc5200.htm; ComponentLink6Description: Xilinx.com Home; ComponentLink6URL: http://www.xilinx.com
footprint BG225 (BGA, 225-Leads, Body 27x27mm, Pitch 1.5mm)
signal-integrity model XC5215_BG225 (XC5200)
part A pins: A2 A14 (io) "I/O (A14)", A6 A10 (io) "I/O (A10)", A10 A4 (io) "I/O (A4)", A13 A2, CS1 (io) "I/O (A2, CS1)", A14 A0, ~{WS} (io) "I/O (A0, WS)", A15 TDO (hiz) "I/O (TDO)", B1 A17 (io) "I/O (A17)", B4 A12 (io) "I/O (A12)", B6 A11 (io) "I/O (A11)", B7 A9 (io) "I/O (A9)", B8 A7 (io) "I/O (A7)", B12 A3 (io) "I/O (A3)", B13 GCK4, A1 (io) "GCK4 (A1, I/O)", B15 DOUT (io) "I/O (DOUT)", C1 TCK (io) "I/O (TCK)", C3 A15 (io) "I/O (A15)", C8 A6 (io) "I/O (A6)", C13 CCLK (io), C15 ~{RCLK}-~{BUSY}/RDY (io) "I/O (RCLK-BUSY/RDY)", D3 TDI (io) "I/O (TDI)", D4 GCK1, A16 (io) "GCK1 (A16, I/O)", D5 A13 (io) "I/O (A13)", D9 A5 (io) "I/O (A5)", E8 A8 (io) "I/O (A8)", E12 D1 (io) "I/O (D1)", F4 TMS (io) "I/O (TMS)", F10 D0, DIN (io) "I/O (D0, DIN)", G11 D2 (io) "I/O (D2)", H11 ~{RS} (io) "I/O (RS)", H12 D3 (io) "I/O (D3)", H13 D4 (io) "I/O (D4)", J10 D6 (io) "I/O (D6)", J12 ~{CS0} (io) "I/O (CS0)", K15 D5 (io) "I/O (D5)", M4 M2 (io) "M2 (I/O)", M12 ~{PROG} (in), N3 M1 (io) "M1 (I/O)", N14 GCK3 (io) "GCK3 (I/O)", P2 M0 (io) "M0 (I/O)", P3 HDC (io) "I/O (HDC)", P4 ~{LDC} (io) "I/O (LDC)", P8 ERR, ~{INIT} (io) "I/O (ERR, INIT)", P14 DONE (io), P15 D7 (io) "I/O (D7)", R2 GCK2 (io) "GCK2 (I/O)"
part B pins: A3 I/O (io), A4 I/O (io), A5 I/O (io), A7 I/O (io), A9 I/O (io), A11 I/O (io), A12 I/O (io), B3 I/O (io), B5 I/O (io), B9 I/O (io), B10 I/O (io), B11 I/O (io), C2 I/O (io), C4 I/O (io), C5 I/O (io), C6 I/O (io), C7 I/O (io), C9 I/O (io), C10 I/O (io), C11 I/O (io), C12 I/O (io), C14 I/O (io), D1 I/O (io), D2 I/O (io), D6 I/O (io), D7 I/O (io), D10 I/O (io), D11 I/O (io), D13 I/O (io), D14 I/O (io), D15 I/O (io), E1 I/O (io), E2 I/O (io), E3 I/O (io), E4 I/O (io), E5 I/O (io), E6 I/O (io), E7 I/O (io), E9 I/O (io), E10 I/O (io), E11 I/O (io), E13 I/O (io), E14 I/O (io), E15 I/O (io), F1 I/O (io), F2 I/O (io), F3 I/O (io), F5 I/O (io), F6 I/O (io), F7 I/O (io), F9 I/O (io), F11 I/O (io), F12 I/O (io), F13 I/O (io), F14 I/O (io), F15 I/O (io), G1 I/O (io), G2 I/O (io), G3 I/O (io), G4 I/O (io), G5 I/O (io), G6 I/O (io), G10 I/O (io), G12 I/O (io), G13 I/O (io), G14 I/O (io), G15 I/O (io), H3 I/O (io), H4 I/O (io), H5 I/O (io), H14 I/O (io), J1 I/O (io), J2 I/O (io), J3 I/O (io), J4 I/O (io), J5 I/O (io), J6 I/O (io), J11 I/O (io), J13 I/O (io), J14 I/O (io), J15 I/O (io), K1 I/O (io), K2 I/O (io), K3 I/O (io), K4 I/O (io), K5 I/O (io), K6 I/O (io), K7 I/O (io), K9 I/O (io), K10 I/O (io), K11 I/O (io), K12 I/O (io), K13 I/O (io), K14 I/O (io), L1 I/O (io), L2 I/O (io), L3 I/O (io), L4 I/O (io), L5 I/O (io), L6 I/O (io), L7 I/O (io), L8 I/O (io), L9 I/O (io), L10 I/O (io), L11 I/O (io), L12 I/O (io), L13 I/O (io), L14 I/O (io), L15 I/O (io), M1 I/O (io), M2 I/O (io), M3 I/O (io), M5 I/O (io), M6 I/O (io), M7 I/O (io), M9 I/O (io), M10 I/O (io), M11 I/O (io), M13 I/O (io), M14 I/O (io), M15 I/O (io), N1 I/O (io), N2 I/O (io), N4 I/O (io), N5 I/O (io), N6 I/O (io), N7 I/O (io), N8 I/O (io), N9 I/O (io), N10 I/O (io), N11 I/O (io), N12 I/O (io), N13 I/O (io), N15 I/O (io), P1 I/O (io), P5 I/O (io), P6 I/O (io), P7 I/O (io), P9 I/O (io), P10 I/O (io), P11 I/O (io), P12 I/O (io), P13 I/O (io), R3 I/O (io), R4 I/O (io), R5 I/O (io), R6 I/O (io), R7 I/O (io), R9 I/O (io), R10 I/O (io), R11 I/O (io), R12 I/O (io), R13 I/O (io), R14 I/O (io)
part C pins: B2 VCC (power) "Internally bonded to ground plane", B14 VCC (power) "Internally bonded to ground plane", D8 VCC (power) "Internally bonded to ground plane", H1 VCC (power) "Internally bonded to ground plane", H15 VCC (power) "Internally bonded to ground plane", R1 VCC (power) "Internally bonded to ground plane", R8 VCC (power) "Internally bonded to ground plane", R15 VCC (power) "Internally bonded to ground plane"
part D pins: A1 GND (power) "Internally bonded to ground plane", A8 GND (power) "Internally bonded to ground plane", D12 GND (power) "Internally bonded to ground plane", F8 GND (power) "Internally bonded to ground plane", G7 GND (power) "Internally bonded to ground plane", G8 GND (power) "Internally bonded to ground plane", G9 GND (power) "Internally bonded to ground plane", H2 GND (power) "Internally bonded to ground plane", H6 GND (power) "Internally bonded to ground plane", H7 GND (power) "Internally bonded to ground plane", H8 GND (power) "Internally bonded to ground plane", H9 GND (power) "Internally bonded to ground plane", H10 GND (power) "Internally bonded to ground plane", J7 GND (power) "Internally bonded to ground plane", J8 GND (power) "Internally bonded to ground plane", J9 GND (power) "Internally bonded to ground plane", K8 GND (power) "Internally bonded to ground plane", M8 GND (power) "Internally bonded to ground plane"

## XC5215-4BG352C
designator U?
XC5200 Series FPGA, 244 User I/Os, 352-Ball BGA, Commercial Grade; Published: 17-Nov-2009; DatasheetVersion: ver5.2, Nov-1998; PackageVersion: ver1.1, Apr-2001; PackageReference: BG352; Publisher: Altium Limited; PackageDescription: 352-Ball Metal Ball Grid Array (BG352); Code_JEDEC: MO-192-BAR-2; ComponentLink1Description: XC5200 Datasheet; ComponentLink1URL: http://www.xilinx.com/support/documentation/data_sheets/5200.pdf; ComponentLink2Description: Pinout Specification; ComponentLink2URL: http://www.xilinx.com/support/documentation/data_sheets/5200.pdf; ComponentLink3Description: BG352 Package Drawing; ComponentLink3URL: http://www.xilinx.com/support/documentation/package_specs/bg352.pdf; ComponentLink4Description: XC5200 Documents; ComponentLink4URL: http://www.xilinx.com/support/documentation/xc5200.htm; ComponentLink5Description: Xilinx.com Home; ComponentLink5URL: http://www.xilinx.com
footprint BG352 (BGA, 352-Leads, Body 35x35mm, Pitch 1.27mm)
signal-integrity model XC5215_BG352 (XC5200)
part A pins: A13 A6 (io) "I/O (A6)", A16 A10 (io) "I/O (A10)", AB23 M1 (io) "M1 (I/O)", AC3 GCK3 (io) "GCK3 (I/O)", AC4 ~{PROG} (in), AC23 M2 (io) "M2 (I/O)", AD2 D7 (io) "I/O (D7)", AD3 DONE (io), AD23 HDC (io) "I/O (HDC)", AD24 M0 (io) "M0 (I/O)", AE23 ~{LDC} (io) "I/O (LDC)", AE24 GCK2 (io) "GCK2 (I/O)", AF14 ERR, ~{INIT} (io) "I/O (ERR, INIT)", B3 A0, ~{WS} (io) "I/O (A0, WS)", B14 A7 (io) "I/O (A7)", B16 A11 (io) "I/O (A11)", B22 A12 (io) "I/O (A12)", C3 CCLK (io), C4 GCK4, A1 (io) "GCK4 (A1, I/O)", C6 A3 (io) "I/O (A3)", C12 A5 (io) "I/O (A5)", C14 A9 (io) "I/O (A9)", C21 A13 (io) "I/O (A13)", C24 A15 (io) "I/O (A15)", C25 A17 (io) "I/O (A17)", C26 TDI (io) "I/O (TDI)", D3 D0, DIN (io) "I/O (D0, DIN)", D4 TDO (hiz) "I/O (TDO)", D6 A2, CS1 (io) "I/O (A2, CS1)", D12 A4 (io) "I/O (A4)", D14 A8 (io) "I/O (A8)", D22 A14 (io) "I/O (A14)", D23 GCK1, A16 (io) "GCK1 (A16, I/O)", E4 DOUT (io) "I/O (DOUT)", E24 TCK (io) "I/O (TCK)", F3 D1 (io) "I/O (D1)", G4 ~{RCLK}-~{BUSY}/RDY (io) "I/O (RCLK-BUSY/RDY)", H25 TMS (io) "I/O (TMS)", J1 D2 (io) "I/O (D2)", N2 D3 (io) "I/O (D3)", N4 ~{RS} (io) "I/O (RS)", P2 D4 (io) "I/O (D4)", V1 ~{CS0} (io) "I/O (CS0)", V2 D5 (io) "I/O (D5)", Y3 D6 (io) "I/O (D6)"
part B pins: A3 I/O (io), A4 I/O (io), A6 I/O (io), A7 I/O (io), A11 I/O (io), A12 I/O (io), A15 I/O (io), A20 I/O (io), A21 I/O (io), A23 I/O (io), AA1 I/O (io), AA2 I/O (io), AA3 I/O (io), AA4 I/O (io), AA23 I/O (io), AA24 I/O (io), AA25 I/O (io), AA26 I/O (io), AB2 I/O (io), AB4 I/O (io), AB24 I/O (io), AB25 I/O (io), AC1 I/O (io), AC5 I/O (io), AC7 I/O (io), AC9 I/O (io), AC10 I/O (io), AC12 I/O (io), AC13 I/O (io), AC15 I/O (io), AC17 I/O (io), AC18 I/O (io), AC19 I/O (io), AC22 I/O (io), AC24 I/O (io), AC26 I/O (io), AD1 I/O (io), AD4 I/O (io), AD5 I/O (io), AD6 I/O (io), AD7 I/O (io), AD8 I/O (io), AD9 I/O (io), AD11 I/O (io), AD12 I/O (io), AD13 I/O (io), AD14 I/O (io), AD15 I/O (io), AD17 I/O (io), AD18 I/O (io), AD19 I/O (io), AD20 I/O (io), AD22 I/O (io), AD25 I/O (io), AE3 I/O (io), AE5 I/O (io), AE6 I/O (io), AE7 I/O (io), AE8 I/O (io), AE9 I/O (io), AE11 I/O (io), AE12 I/O (io), AE13 I/O (io), AE14 I/O (io), AE15 I/O (io), AE16 I/O (io), AE17 I/O (io), AE19 I/O (io), AE20 I/O (io), AE21 I/O (io), AE22 I/O (io), AF3 I/O (io), AF4 I/O (io), AF6 I/O (io), AF7 I/O (io), AF11 I/O (io), AF12 I/O (io), AF15 I/O (io), AF16 I/O (io), AF20 I/O (io), AF21 I/O (io), AF23 I/O (io), AF24 I/O (io), B5 I/O (io), B6 I/O (io), B7 I/O (io), B8 I/O (io), B9 I/O (io), B11 I/O (io), B12 I/O (io), B13 I/O (io), B15 I/O (io), B18 I/O (io), B19 I/O (io), B20 I/O (io), B21 I/O (io), B24 I/O (io), C2 I/O (io), C7 I/O (io), C9 I/O (io), C10 I/O (io), C13 I/O (io), C15 I/O (io), C17 I/O (io), C18 I/O (io), C19 I/O (io), C20 I/O (io), C22 I/O (io), C23 I/O (io), D2 I/O (io), D5 I/O (io), D8 I/O (io), D9 I/O (io), D10 I/O (io), D15 I/O (io), D17 I/O (io), D18 I/O (io), D20 I/O (io), D21 I/O (io), D24 I/O (io), D26 I/O (io), E2 I/O (io), E3 I/O (io), E23 I/O (io), E25 I/O (io), F1 I/O (io), F2 I/O (io), F4 I/O (io), F24 I/O (io), F25 I/O (io), F26 I/O (io), G1 I/O (io), G2 I/O (io), G3 I/O (io), G24 I/O (io), G25 I/O (io), G26 I/O (io), H2 I/O (io), H3 I/O (io), H23 I/O (io), H24 I/O (io), J2 I/O (io), J3 I/O (io), J4 I/O (io), J23 I/O (io), J24 I/O (io), K3 I/O (io), K4 I/O (io), K23 I/O (io), K25 I/O (io), L1 I/O (io), L24 I/O (io), L25 I/O (io), L26 I/O (io), M1 I/O (io), M2 I/O (io), M3 I/O (io), M4 I/O (io), M23 I/O (io), M24 I/O (io), M25 I/O (io), M26 I/O (io), N3 I/O (io), N24 I/O (io), N25 I/O (io), N26 I/O (io), P1 I/O (io), P3 I/O (io), P23 I/O (io), P24 I/O (io), P25 I/O (io), R1 I/O (io), R2 I/O (io), R3 I/O (io), R4 I/O (io), R23 I/O (io), R24 I/O (io), R25 I/O (io), R26 I/O (io), T1 I/O (io), T25 I/O (io), T26 I/O (io), U3 I/O (io), U4 I/O (io), U23 I/O (io), U24 I/O (io), V3 I/O (io), V4 I/O (io), V23 I/O (io), V24 I/O (io), V25 I/O (io), W2 I/O (io), W3 I/O (io), W4 I/O (io), W24 I/O (io), W25 I/O (io), Y1 I/O (io), Y2 I/O (io), Y23 I/O (io), Y24 I/O (io), Y25 I/O (io), Y26 I/O (io)
part C pins: A10 VCC (power) "Internally bonded to ground plane", A17 VCC (power) "Internally bonded to ground plane", AC8 VCC (power) "Internally bonded to ground plane", AC14 VCC (power) "Internally bonded to ground plane", AC20 VCC (power) "Internally bonded to ground plane", AE2 VCC (power) "Internally bonded to ground plane", AE25 VCC (power) "Internally bonded to ground plane", AF10 VCC (power) "Internally bonded to ground plane", AF17 VCC (power) "Internally bonded to ground plane", B2 VCC (power) "Internally bonded to ground plane", B25 VCC (power) "Internally bonded to ground plane", D7 VCC (power) "Internally bonded to ground plane", D13 VCC (power) "Internally bonded to ground plane", D19 VCC (power) "Internally bonded to ground plane", G23 VCC (power) "Internally bonded to ground plane", H4 VCC (power) "Internally bonded to ground plane", K1 VCC (power) "Internally bonded to ground plane", K26 VCC (power) "Internally bonded to ground plane", N23 VCC (power) "Internally bonded to ground plane", P4 VCC (power) "Internally bonded to ground plane", U1 VCC (power) "Internally bonded to ground plane", U26 VCC (power) "Internally bonded to ground plane", W23 VCC (power) "Internally bonded to ground plane", Y4 VCC (power) "Internally bonded to ground plane"
part D pins: A1 GND (power) "Internally bonded to ground plane", A2 GND (power) "Internally bonded to ground plane", A5 GND (power) "Internally bonded to ground plane", A8 GND (power) "Internally bonded to ground plane", A14 GND (power) "Internally bonded to ground plane", A19 GND (power) "Internally bonded to ground plane", A22 GND (power) "Internally bonded to ground plane", A25 GND (power) "Internally bonded to ground plane", A26 GND (power) "Internally bonded to ground plane", AB1 GND (power) "Internally bonded to ground plane", AB26 GND (power) "Internally bonded to ground plane", AE1 GND (power) "Internally bonded to ground plane", AE26 GND (power) "Internally bonded to ground plane", AF1 GND (power) "Internally bonded to ground plane", AF2 GND (power) "Internally bonded to ground plane", AF5 GND (power) "Internally bonded to ground plane", AF8 GND (power) "Internally bonded to ground plane", AF13 GND (power) "Internally bonded to ground plane", AF19 GND (power) "Internally bonded to ground plane", AF22 GND (power) "Internally bonded to ground plane", AF25 GND (power) "Internally bonded to ground plane", AF26 GND (power) "Internally bonded to ground plane", B1 GND (power) "Internally bonded to ground plane", B26 GND (power) "Internally bonded to ground plane", E1 GND (power) "Internally bonded to ground plane", E26 GND (power) "Internally bonded to ground plane", H1 GND (power) "Internally bonded to ground plane", H26 GND (power) "Internally bonded to ground plane", N1 GND (power) "Internally bonded to ground plane", P26 GND (power) "Internally bonded to ground plane", W1 GND (power) "Internally bonded to ground plane", W26 GND (power) "Internally bonded to ground plane"
part E pins: A9 NC, A18 NC, A24 NC, AB3 NC, AC2 NC, AC6 NC, AC11 NC, AC16 NC, AC21 NC, AC25 NC, AD10 NC, AD16 NC, AD21 NC, AD26 NC, AE4 NC, AE10 NC, AE18 NC, AF9 NC, AF18 NC, B4 NC, B10 NC, B17 NC, B23 NC, C1 NC, C5 NC, C8 NC, C11 NC, C16 NC, D1 NC, D11 NC, D16 NC, D25 NC, F23 NC, J25 NC, J26 NC, K2 NC, K24 NC, L2 NC, L3 NC, L4 NC, L23 NC, T2 NC, T3 NC, T4 NC, T23 NC, T24 NC, U2 NC, U25 NC, V26 NC